# Altium schematic symbol library Resistors.SchLib: 76 symbols (part 3 of 3)
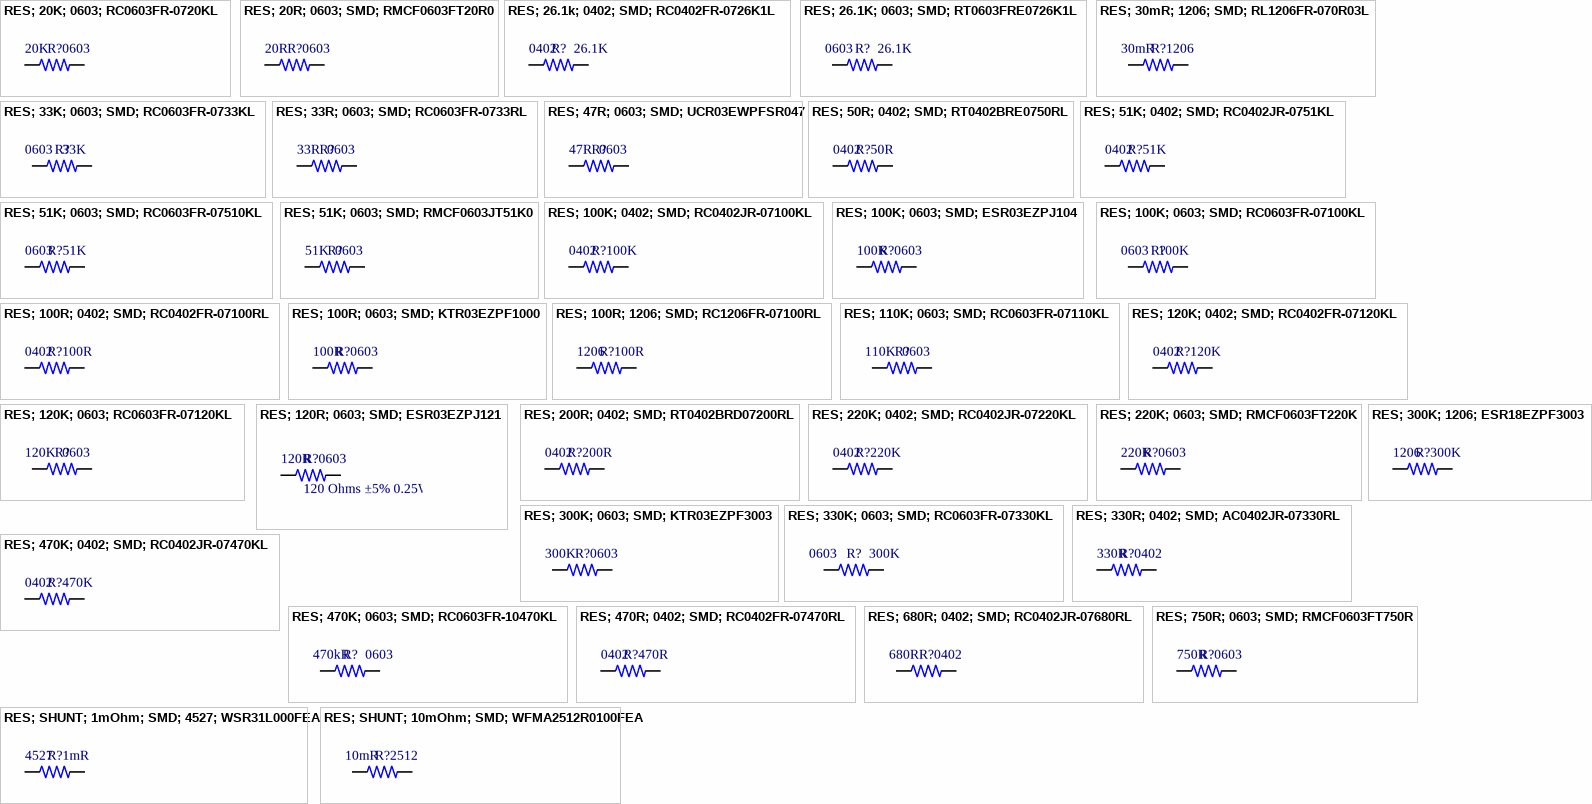
[diagram p3: symbols RES; 20K; 0603; RC0603FR-0720KL to RES; SHUNT; 10mOhm; SMD; WFMA2512R0100FEA]

## RES; 120R; 0603; SMD; ESR03EZPJ121
designator R?, comment 120 Ohms ±5% 0.25W, 1/4W Chip Resistor 0603 (1608 Metric) Automotive AEC-Q200, Pulse Withstanding Thick Film  value 120R  Package: 0603
Res Thick Film 0603 120 Ohm 5% 0.25W(1/4W) ±200ppm/C Epoxy Resin Pad SMD Automotive T/R; Manufacturer: Rohm; Manufacturer Part Number: ESR03EZPJ121; Power Rating: 250mW; Temperature Coefficient: 200ppm/°C; Voltage Rating: 150V; Designer: TVBac; Supplier: Mouser; Supplier Part Number: 755-ESR03EZPJ121; RoHS: Yes; Category: Chip SMD Resistors; Stock: 7569; Pricing: 1=0.14, 10=0.045, 50=0.045, 100=0.038, 500=0.027, 1000=0.024, 5000=0.016, 10000=0.015, 25000=0.014, 50000=0.013 (USD); Case Code (Metric): 1608; Case Code (Imperial): 0603; Min Operating Temperature: -55°C; Max Operating Temperature: 155°C; Tolerance: 5%; Package Quantity: 1; Packaging: Cut Tape; Number of Terminations: 2; Max Power Dissipation: 250mW; Features: Automotive AEC-Q200; Series: ESR; Voltage Rating (DC): 150V; Length: 0.063inch; Width: 0.031inch; Height: 0.022inch; RoHS Compliant: Yes; Lead Free: 5697LeadFree; ComponentLink1URL: https://datasheet.ciiva.com/2495/esr-2495285.pdf?src-supplier=Digikey; ComponentLink1Description: https://datasheet.ciiva.com/2495/esr-2495285.pdf?src-supplier=Digikey; ComponentLink2URL: https://datasheet.ciiva.com/2495/esr-2495286.pdf?src-supplier=Digikey; ComponentLink2Description: https://datasheet.ciiva.com/2495/esr-2495286.pdf?src-supplier=Digikey; ComponentLink3URL: https://datasheet.ciiva.com/2495/esr-2495284.pdf?src-supplier=Digikey; ComponentLink3Description: https://datasheet.ciiva.com/2495/esr-2495284.pdf?src-supplier=Digikey; Case/Package: 0603
footprint SMD-RES-0603-RS
pins: 1, 2

## RES; 200R; 0402; SMD; RT0402BRD07200RL
designator R?, comment value 200R  Package: 0402  (hidden comment: 200 Ohms ±0.1% 0.063W, 1/16W Chip Resistor 0402 (1005 Metric) Thin Film)
Res Thin Film 0402 200 Ohm 0.1% 1/16W ±25ppm/°C Molded SMD SMD Paper T/R; Manufacturer: Yageo; Manufacturer Part Number: RT0402BRD07200RL; Power Rating: 62.5mW; Voltage Rating: 50V; Max Power Dissipation: 63mW; Supplier: Digikey; Supplier Part Number: YAG1387CT-ND; RoHS: Yes; Category: Chip SMD Resistors; Stock: 9118; Pricing: 1=0.17, 10=0.117, 50=0.1, 100=0.0887, 500=0.06732, 1000=0.05814, 5000=0.04386 (USD); Case/Package: 0402; Case Code (Metric): 1005; Case Code (Imperial): 0402; Min Operating Temperature: -55°C; Max Operating Temperature: 155°C; Package Quantity: 10000; Packaging: Tape and Reel; Tolerance: 0.1%; Number of Terminations: 2; Termination: SMD/SMT; Temperature Coefficient: 25ppm/°C; Voltage Rating (DC): 50V; Features: Moisture Resistant; Series: RT; Length: 0.039inch; Width: 0.02inch; Height: 0.014inch; Lead Free: Lead Free; RoHS Compliant: Yes; ComponentLink1URL: https://datasheet.ciiva.com/12705/pyu-rt-1-to-0-05-rohs-l-4-12705967.pdf?src-supplier=Mouser; ComponentLink1Description: https://datasheet.ciiva.com/12705/pyu-rt-1-to-0-05-rohs-l-4-12705967.pdf?src-supplier=Mouser; ComponentLink2URL: https://datasheet.ciiva.com/2582/pyu-rt-1-to-0-05-rohs-l-4-2582220.pdf?src-supplier=Digikey; ComponentLink2Description: https://datasheet.ciiva.com/2582/pyu-rt-1-to-0-05-rohs-l-4-2582220.pdf?src-supplier=Digikey; ComponentLink3URL: https://datasheet.ciiva.com/46635/pyu-rt-1-to-0-05-rohs-l-5-46635174.pdf?src-supplier=Digikey; ComponentLink3Description: https://datasheet.ciiva.com/46635/pyu-rt-1-to-0-05-rohs-l-5-46635174.pdf?src-supplier=Digikey
footprint SMD-RES-0402-YAGEO
pins: 1, 2

## RES; 220K; 0402; SMD; RC0402JR-07220KL
designator R?, comment value 220K  Package: 0402  (hidden comment: 220 kOhms ±5% 0.063W, 1/16W Chip Resistor 0402 (1005 Metric) Moisture Resistant Thick Film)
SMD Chip Resistor, 220 kOhm, ï¿½ 5%, 63 mW, 0402 [1005 Metric], Thick Film, General Purpose; Manufacturer: Yageo; Manufacturer Part Number: RC0402JR-07220KL; Power Rating: 62.5mW; Voltage Rating: 50V; Temperature Coefficient: 100ppm/°C; Max Power Dissipation: 63mW; Supplier: Future Electronics; Supplier Part Number: 6521488; RoHS: Yes; Category: Chip SMD Resistors; Stock: 140000; Pricing: 10000=0.0009, 40000=0.0009, 50000=0.0006, 100000=0.0009, 250000=0.0008, 400000=0.0008, 500000=0.0005, 1500000=0.0005 (USD); Case/Package: 0402; Case Code (Imperial): 0402; Case Code (Metric): 1005; Min Operating Temperature: -55°C; Max Operating Temperature: 155°C; Tolerance: 5%; Packaging: Tape and Reel; Package Quantity: 10000; Termination: SMD/SMT; Resistor Type: Thick Film; Features: Moisture Resistant; Series: RC; Number of Terminations: 2; Construction: Rectangular; Resistance Tolerance: 5%; Length: 1mm; Width: 0.5mm; Height: 0.35mm; Depth: 0.5mm; Reach SVHC Compliant: No; Military Standard: Not; RoHS Compliant: Yes; Lead Free: 5697LeadFree; ComponentLink1URL: https://datasheet.ciiva.com/7983/1018594-7983565.pdf?src-supplier=Element14; ComponentLink1Description: https://datasheet.ciiva.com/7983/1018594-7983565.pdf?src-supplier=Element14; ComponentLink2URL: https://datasheet.ciiva.com/12558/pyu-rc0402-51-rohs-l-6-r-8721-12558319.pdf?src-supplier=Mouser; ComponentLink2Description: https://datasheet.ciiva.com/12558/pyu-rc0402-51-rohs-l-6-r-8721-12558319.pdf?src-supplier=Mouser; ComponentLink3URL: https://datasheet.ciiva.com/7850/1018594-7850175.pdf?src-supplier=Element14; ComponentLink3Description: https://datasheet.ciiva.com/7850/1018594-7850175.pdf?src-supplier=Element14; ComponentLink4URL: https://datasheet.ciiva.com/7850/1018594-7850174.pdf?src-supplier=Element14; ComponentLink4Description: https://datasheet.ciiva.com/7850/1018594-7850174.pdf?src-supplier=Element14; ComponentLink5URL: https://datasheet.ciiva.com/17067/pyu-rc0402-51-rohs-l-6-r-17067375.pdf?src-supplier=Future+Electronics; ComponentLink5Description: https://datasheet.ciiva.com/17067/pyu-rc0402-51-rohs-l-6-r-17067375.pdf?src-supplier=Future+Electronics
footprint SMD-RES-0402-YAGEO
pins: 1, 2

## RES; 220K; 0603; SMD; RMCF0603FT220K
designator R?, comment value 220K  Package: 0603  (hidden comment: 220 kOhms ±1% 0.1W, 1/10W Chip Resistor 0603 (1608 Metric) Automotive AEC-Q200 Thick Film)
Res Thick Film 0603 220K Ohm 1% 0.1W(1/10W) ±100ppm/C Pad SMD Automotive T/R; Manufacturer: Stackpole Electronics; Manufacturer Part Number: RMCF0603FT220K; Voltage Rating: 75V; Designer: TVBac; Supplier: Digikey; Supplier Part Number: RMCF0603FT220KCT-ND; RoHS: Yes; Category: Chip SMD Resistors; Stock: 1707380; Pricing: 1=0.1, 10=0.011, 50=0.0064, 100=0.0053, 500=0.0035, 1000=0.00299 (USD); Lead Free: 5697LeadFree; ComponentLink1URL: https://datasheet.ciiva.com/26835/getdatasheetpartid-479010-26835622.pdf?src-supplier=Verical; ComponentLink1Description: https://datasheet.ciiva.com/26835/getdatasheetpartid-479010-26835622.pdf?src-supplier=Verical; ComponentLink2Description: Link Digikey; ComponentLink2URL: https://www.digikey.com/en/products/detail/stackpole-electronics-inc/RMCF0603FT220K/1760805
footprint SMD-RES-0603-SEI
pins: 1, 2

## RES; 300K; 0603; SMD; KTR03EZPF3003
designator R?, comment value 300K  Package: 0603  (hidden comment: 300 kOhms ±1% 0.1W, 1/10W Chip Resistor 0603 (1608 Metric) Automotive AEC-Q200, High Voltage Thick Film)
Res High Voltage Thick Film 0603 300k Ohm 1% 1/10W ±100ppm/°C Molded Paper T/R; Manufacturer: Rohm; Manufacturer Part Number: KTR03EZPF3003; Max Power Dissipation: 100mW; Voltage Rating: 350V; Designer: TVBac; Supplier: Mouser; Supplier Part Number: 755-KTR03EZPF3003; RoHS: Yes; Category: Chip SMD Resistors; Stock: 9502; Pricing: 1=0.17, 10=0.055, 50=0.055, 100=0.032, 1000=0.026, 10000=0.019 (USD); Case/Package: 0603; Case Code (Metric): 1608; Case Code (Imperial): 0603; Min Operating Temperature: -55°C; Max Operating Temperature: 155°C; Package Quantity: 5000; Packaging: Cut Tape; Tolerance: 1%; Number of Terminations: 2; Temperature Coefficient: 100ppm/°C; Features: Automotive AEC-Q200; Series: KTR; Voltage Rating (DC): 350V; Length: 0.063inch; Width: 0.031inch; Height: 0.022inch; RoHS Compliant: Yes; ComponentLink1URL: https://datasheet.ciiva.com/14926/ktr-14926439.pdf?src-supplier=Digikey; ComponentLink1Description: https://datasheet.ciiva.com/14926/ktr-14926439.pdf?src-supplier=Digikey; ComponentLink2URL: https://datasheet.ciiva.com/14925/ktr-14925709.pdf?src-supplier=Digikey; ComponentLink2Description: https://datasheet.ciiva.com/14925/ktr-14925709.pdf?src-supplier=Digikey; ComponentLink3Description: Link Digikey; ComponentLink3URL: https://www.digikey.com/en/products/detail/rohm-semiconductor/KTR03EZPF3003/4051625
footprint SMD-RES-0603-RS
pins: 1, 2

## RES; 300K; 1206; ESR18EZPF3003
designator R?, comment value 300K  Package: 1206  (hidden comment: 300 kOhms ±1% 0.5W, 1/2W Chip Resistor 1206 (3216 Metric) Automotive AEC-Q200, Pulse Withstanding Thick Film)
Res Thick Film 1206 300K Ohm 1% 0.5W(1/2W) ±100ppm/C Epoxy Resin Pad SMD Automotive T/R; Manufacturer: Rohm; Manufacturer Part Number: ESR18EZPF3003; Max Power Dissipation: 500mW; Temperature Coefficient: 100ppm/°C; Voltage Rating: 200V; Designer: TVBac; Supplier: Mouser; Supplier Part Number: 755-ESR18EZPF3003; RoHS: Yes; Category: Chip SMD Resistors; Stock: 34367; Pricing: 1=0.12, 10=0.042, 50=0.042, 100=0.026, 1000=0.023, 10000=0.016 (USD); Case/Package: 1206; Case Code (Metric): 3216; Case Code (Imperial): 1206; Min Operating Temperature: -55°C; Max Operating Temperature: 155°C; Tolerance: 1%; Packaging: Cut Tape; Number of Terminations: 2; Features: Automotive AEC-Q200; Series: ESR; Ratings: AEC-Q200; RoHS Compliant: Yes; ComponentLink1URL: https://datasheet.ciiva.com/2527/esr-2527195.pdf?src-supplier=Digikey; ComponentLink1Description: https://datasheet.ciiva.com/2527/esr-2527195.pdf?src-supplier=Digikey; ComponentLink2URL: https://datasheet.ciiva.com/2527/esr-2527196.pdf?src-supplier=Digikey; ComponentLink2Description: https://datasheet.ciiva.com/2527/esr-2527196.pdf?src-supplier=Digikey; ComponentLink3URL: https://datasheet.ciiva.com/2527/esr-2527197.pdf?src-supplier=Digikey; ComponentLink3Description: https://datasheet.ciiva.com/2527/esr-2527197.pdf?src-supplier=Digikey; ComponentLink4Description: Link Digikey; ComponentLink4URL: https://www.digikey.com/en/products/detail/rohm-semiconductor/ESR18EZPF3003/1983605
footprint SMD-RES-1206-RS
pins: 1, 2

## RES; 330K; 0603; SMD; RC0603FR-07330KL
designator R?, comment value 300K  Package: 0603  (hidden comment: 330 kOhms ±1% 0.1W, 1/10W Chip Resistor 0603 (1608 Metric) Moisture Resistant Thick Film)
SMD Chip Resistor, 330 kOhm, ï¿½ 1%, 100 mW, 0603 [1608 Metric], Thick Film, General Purpose; Manufacturer: Yageo; Manufacturer Part Number: RC0603FR-07330KL; Power Rating: 100mW; Voltage Rating: 75V; Voltage Rating (DC): 50V; Temperature Coefficient: 100ppm/°C; Designer: TVBac; Supplier: Future Electronics; Supplier Part Number: 9008384; RoHS: Yes; Category: Chip SMD Resistors; Stock: 905000; Pricing: 5000=0.0012, 25000=0.0012, 125000=0.0011, 250000=0.0011, 750000=0.001 (USD); Case/Package: 0603; Pins: 2; Case Code (Imperial): 0603; Case Code (Metric): 1608; Weight: 7.1E-05oz; Min Operating Temperature: -55°C; Max Operating Temperature: 155°C; Tolerance: 1%; Packaging: Tape and Reel; Termination: SMD/SMT; Resistor Type: Thick Film; Number of Terminations: 2; Max Power Dissipation: 100mW; Features: Moisture Resistant; Series: RC; Resistance Tolerance: 1%; Construction: Rectangular; Voltage Rating (AC): 50V; Working Voltage: 75V; Length: 1.6mm; Width: 0.8mm; Height: 0.45mm; Depth: 0.8mm; Reach SVHC Compliant: No; Military Standard: Not; Lead Free: Lead Free; RoHS Compliant: Yes; ComponentLink1URL: https://datasheet.ciiva.com/2455/pyu-r-int-thick-7-2455365.pdf?src-supplier=Digikey; ComponentLink1Description: https://datasheet.ciiva.com/2455/pyu-r-int-thick-7-2455365.pdf?src-supplier=Digikey; ComponentLink2URL: https://datasheet.ciiva.com/2455/pyu-r-int-thick-7-2455366.pdf?src-supplier=Digikey; ComponentLink2Description: https://datasheet.ciiva.com/2455/pyu-r-int-thick-7-2455366.pdf?src-supplier=Digikey; ComponentLink3URL: https://datasheet.ciiva.com/2455/pyu-r-int-thick-7-2455367.pdf?src-supplier=Digikey; ComponentLink3Description: https://datasheet.ciiva.com/2455/pyu-r-int-thick-7-2455367.pdf?src-supplier=Digikey; ComponentLink4URL: https://datasheet.ciiva.com/7746/443971-7746327.pdf?src-supplier=Element14; ComponentLink4Description: https://datasheet.ciiva.com/7746/443971-7746327.pdf?src-supplier=Element14; ComponentLink5URL: https://datasheet.ciiva.com/7746/443971-7746328.pdf?src-supplier=Element14; ComponentLink5Description: https://datasheet.ciiva.com/7746/443971-7746328.pdf?src-supplier=Element14
footprint SMD-RES-0603-YAGEO
pins: 1, 2

## RES; 330R; 0402; SMD; AC0402JR-07330RL
designator R?, comment value 330R  Package: 0402  (hidden comment: 330 Ohms ±5% 0.063W, 1/16W Chip Resistor 0402 (1005 Metric) Automotive AEC-Q200, Moisture Resistant Thick Film)
SMD Chip Resistor, 330 Ohm, ± 5%, 63 mW, 0402 [1005 Metric], Thick Film, General Purpose; Manufacturer: Yageo; Manufacturer Part Number: AC0402JR-07330RL; Power Rating: 62.5mW; Voltage Rating: 50V; Max Power Dissipation: 63mW; Temperature Coefficient: 100ppm/°C; Supplier: Digikey; Supplier Part Number: YAG3542CT-ND; RoHS: Yes; Category: Chip SMD Resistors; Stock: 36911; Pricing: 1=0.1, 10=0.008, 50=0.0072, 100=0.0061, 500=0.0056, 1000=0.0051 (USD); Case/Package: 0402; Case Code (Imperial): 0402; Case Code (Metric): 1005; Min Operating Temperature: -55°C; Max Operating Temperature: 155°C; Packaging: Tape and Reel; Tolerance: 5%; Number of Terminations: 2; Termination: SMD/SMT; Features: Moisture Resistant,Automotive AEC-Q200; Series: AC; Length: 0.039inch; Width: 0.5mm; Height: 0.015inch; RoHS Compliant: Yes; ComponentLink1URL: http://www.mouser.com/ds/2/447/yageodocoutput-1111992.pdf?src-supplier=Mouser; ComponentLink1Description: http://www.mouser.com/ds/2/447/yageodocoutput-1111992.pdf?src-supplier=Mouser; ComponentLink2URL: http://www.yageo.com/NewPortal/yageodocoutput?fileName=/pdf/R-Chip/PYu-AC_51_RoHS_L_6.pdf&src-supplier=Digikey; ComponentLink2Description: http://www.yageo.com/NewPortal/yageodocoutput?fileName=/pdf/R-Chip/PYu-AC_51_RoHS_L_6.pdf&src-supplier=Digikey
footprint SMD-RES-0402-YAGEO
pins: 1, 2

## RES; 470K; 0402; SMD; RC0402JR-07470KL
designator R?, comment value 470K  Package: 0402  (hidden comment: 470 kOhms ±5% 0.063W, 1/16W Chip Resistor 0402 (1005 Metric) Moisture Resistant Thick Film)
SMD Chip Resistor, 470 kOhm, ï¿½ 5%, 63 mW, 0402 [1005 Metric], Thick Film, General Purpose; Manufacturer: Yageo; Manufacturer Part Number: RC0402JR-07470KL; Power Rating: 62.5mW; Voltage Rating: 50V; Temperature Coefficient: 100ppm/°C; Max Power Dissipation: 63mW; Supplier: Future Electronics; Supplier Part Number: 1037332; RoHS: Yes; Category: Chip SMD Resistors; Stock: 1040000; Pricing: 10000=0.0009, 40000=0.0009, 50000=0.0006, 100000=0.0009, 250000=0.0008, 400000=0.0008, 500000=0.0005, 1500000=0.0005 (USD); Case/Package: 0402; Case Code (Metric): 1005; Case Code (Imperial): 0402; Min Operating Temperature: -55°C; Max Operating Temperature: 155°C; Package Quantity: 10000; Tolerance: 5%; Packaging: Tape and Reel; Resistor Type: Thick Film; Number of Terminations: 2; Termination: SMD/SMT; Working Voltage: 50V; Features: Moisture Resistant; Series: RC; Technology: THICK FILM; Construction: Rectangular; Resistance Tolerance: 5%; Voltage Rating (AC): 50V; Length: 0.039inch; Width: 0.02inch; Height: 0.016inch; Depth: 0.5mm; Reach SVHC Compliant: No; Military Standard: Not; RoHS Compliant: Yes; Lead Free: 5697LeadFree; ComponentLink1URL: https://datasheet.ciiva.com/2452/pyu-r-int-thick-7-2452630.pdf?src-supplier=Digikey; ComponentLink1Description: https://datasheet.ciiva.com/2452/pyu-r-int-thick-7-2452630.pdf?src-supplier=Digikey; ComponentLink2URL: https://datasheet.ciiva.com/2452/pyu-r-int-thick-7-2452631.pdf?src-supplier=Digikey; ComponentLink2Description: https://datasheet.ciiva.com/2452/pyu-r-int-thick-7-2452631.pdf?src-supplier=Digikey; ComponentLink3URL: https://datasheet.ciiva.com/2452/pyu-r-int-thick-7-2452629.pdf?src-supplier=Digikey; ComponentLink3Description: https://datasheet.ciiva.com/2452/pyu-r-int-thick-7-2452629.pdf?src-supplier=Digikey; ComponentLink4URL: https://datasheet.ciiva.com/12667/pyu-rc0402-51-rohs-l-6-r-12667098.pdf?src-supplier=Mouser; ComponentLink4Description: https://datasheet.ciiva.com/12667/pyu-rc0402-51-rohs-l-6-r-12667098.pdf?src-supplier=Mouser; ComponentLink5URL: https://datasheet.ciiva.com/7850/1018594-7850214.pdf?src-supplier=Element14; ComponentLink5Description: https://datasheet.ciiva.com/7850/1018594-7850214.pdf?src-supplier=Element14
footprint SMD-RES-0402-YAGEO
pins: 1, 2

## RES; 470K; 0603; SMD; RC0603FR-10470KL
designator R?, comment value 470kR  Package: 0603  (hidden comment: 470 kOhms ±1% 0.1W, 1/10W Chip Resistor 0603 (1608 Metric) Thick Film)
SMD Chip Resistor, 470 kOhm, ï¿½ 1%, 100 mW, 0603 [1608 Metric], Thick Film, General Purpose; Manufacturer: Yageo; Manufacturer Part Number: RC0603FR-10470KL; Power Rating: 100mW; Voltage Rating: 50V; Temperature Coefficient: 100ppm/°C; Designer: TVBac; Supplier: Digikey; Supplier Part Number: 13-RC0603FR-10470KLCT-ND; RoHS: Yes; Category: Chip SMD Resistors; Stock: 81690; Pricing: 1=0.1, 10=0.009, 100=0.0071, 1000=0.0051, 2500=0.00408 (USD); Case/Package: 0603; Case Code (Imperial): 0603; Case Code (Metric): 1608; Contact Plating: Tin,Lead; Min Operating Temperature: -55°C; Max Operating Temperature: 155°C; Packaging: Tape and Reel; Tolerance: 1%; Termination: SMD/SMT; Series: RC; Length: 1.6mm; Width: 0.8mm; Height: 0.45mm; RoHS Compliant: Yes; ComponentLink1URL: https://datasheet.ciiva.com/12561/rc0603-272842-12561429.pdf?src-supplier=Mouser; ComponentLink1Description: https://datasheet.ciiva.com/12561/rc0603-272842-12561429.pdf?src-supplier=Mouser
footprint SMD-RES-0603-YAGEO
pins: 1, 2

## RES; 470R; 0402; SMD; RC0402FR-07470RL
designator R?, comment value 470R  Package: 0402  (hidden comment: 470 Ohms ±1% 0.063W, 1/16W Chip Resistor 0402 (1005 Metric) Moisture Resistant Thick Film)
Res Thick Film 0402 470 Ohm 1% 0.063W(1/16W) ±100ppm/C Pad SMD T/R; Manufacturer: Yageo; Manufacturer Part Number: RC0402FR-07470RL; Voltage Rating: 50V; Power Rating: 62.5mW; Max Power Dissipation: 63mW; Temperature Coefficient: 100ppm/°C; Supplier: Digikey; Supplier Part Number: 311-470LRCT-ND; RoHS: Yes; Category: Chip SMD Resistors; Stock: 1914207; Pricing: 1=0.1, 10=0.008, 100=0.0041, 1000=0.00306, 10000=0.00204, 20000=0.0019, 30000=0.00172, 50000=0.00161, 70000=0.00153 (USD); Case/Package: 0402; Case Code (Metric): 1005; Case Code (Imperial): 0402; Min Operating Temperature: -55°C; Max Operating Temperature: 155°C; Packaging: Tape and Reel; Tolerance: 1%; Resistor Type: Thick Film; Number of Terminations: 2; Termination: SMD/SMT; Features: Moisture Resistant; Series: RC; Resistance Tolerance: 1%; Package Quantity: 1; Construction: Rectangular; Voltage Rating (AC): 50V; Working Voltage: 50V; Length: 1mm; Width: 0.02inch; Height: 0.016inch; Depth: 0.5mm; Reach SVHC Compliant: No; Lead Free: Lead Free; RoHS Compliant: Yes; Military Standard: Not
footprint SMD-RES-0402-YAGEO
pins: 1, 2

## RES; 680R; 0402; SMD; RC0402JR-07680RL
designator R?, comment value 680R  Package: 0402  (hidden comment: 680 Ohms ±5% 0.063W, 1/16W Chip Resistor 0402 (1005 Metric) Moisture Resistant Thick Film)
SMD Chip Resistor, 680 Ohm, ï¿½ 5%, 63 mW, 0402 [1005 Metric], Thick Film, General Purpose; Manufacturer: Yageo; Manufacturer Part Number: RC0402JR-07680RL; Voltage Rating (AC): 50V; Supplier: Future Electronics; Supplier Part Number: 1680057; RoHS: Yes; Category: Chip SMD Resistors; Stock: 650000; Pricing: 10000=0.0009, 40000=0.0009, 50000=0.0006, 100000=0.0009, 250000=0.0008, 400000=0.0008, 500000=0.0005, 1500000=0.0005 (USD); Lead Free: 5697LeadFree; ComponentLink1URL: https://datasheet.ciiva.com/2452/pyu-r-int-thick-7-2452686.pdf?src-supplier=Digikey; ComponentLink1Description: https://datasheet.ciiva.com/2452/pyu-r-int-thick-7-2452686.pdf?src-supplier=Digikey; ComponentLink2URL: https://datasheet.ciiva.com/2452/pyu-r-int-thick-7-2452687.pdf?src-supplier=Digikey; ComponentLink2Description: https://datasheet.ciiva.com/2452/pyu-r-int-thick-7-2452687.pdf?src-supplier=Digikey; ComponentLink3URL: https://datasheet.ciiva.com/2452/pyu-r-int-thick-7-2452688.pdf?src-supplier=Digikey; ComponentLink3Description: https://datasheet.ciiva.com/2452/pyu-r-int-thick-7-2452688.pdf?src-supplier=Digikey; ComponentLink4URL: https://datasheet.ciiva.com/16740/pyu-rc0402-51-rohs-l-6-r-16740838.pdf?src-supplier=Future+Electronics; ComponentLink4Description: https://datasheet.ciiva.com/16740/pyu-rc0402-51-rohs-l-6-r-16740838.pdf?src-supplier=Future+Electronics; ComponentLink5URL: https://datasheet.ciiva.com/7850/1018594-7850236.pdf?src-supplier=Element14; ComponentLink5Description: https://datasheet.ciiva.com/7850/1018594-7850236.pdf?src-supplier=Element14; ComponentLink6URL: https://datasheet.ciiva.com/7850/1018594-7850237.pdf?src-supplier=Element14; ComponentLink6Description: https://datasheet.ciiva.com/7850/1018594-7850237.pdf?src-supplier=Element14; ComponentLink7URL: https://datasheet.ciiva.com/12656/pyu-rc0402-51-rohs-l-6-r-12656938.pdf?src-supplier=Mouser; ComponentLink7Description: https://datasheet.ciiva.com/12656/pyu-rc0402-51-rohs-l-6-r-12656938.pdf?src-supplier=Mouser; ComponentLink8URL: https://datasheet.ciiva.com/7983/1018594-7983605.pdf?src-supplier=Element14; ComponentLink8Description: https://datasheet.ciiva.com/7983/1018594-7983605.pdf?src-supplier=Element14
footprint SMD-RES-0402-YAGEO
pins: 1, 2

## RES; 750R; 0603; SMD; RMCF0603FT750R
designator R?, comment value 750R  Package: 0603  (hidden comment: 750 Ohms ±1% 0.1W, 1/10W Chip Resistor 0603 (1608 Metric) Automotive AEC-Q200 Thick Film)
Res Thick Film 0603 750 Ohm 1% 0.1W(1/10W) ±100ppm/C Pad SMD Automotive T/R; Manufacturer: Stackpole Electronics; Manufacturer Part Number: RMCF0603FT750R; Voltage Rating: 75V; Designer: TVBac; Supplier: Digikey; Supplier Part Number: RMCF0603FT750RCT-ND; RoHS: Yes; Category: Chip SMD Resistors; Stock: 119477; Pricing: 1=0.1, 10=0.015, 50=0.009, 100=0.0075, 500=0.00498, 1000=0.00425 (USD); Lead Free: 5697LeadFree; ComponentLink1URL: http://components.arrow.com/part/dataview/46942753S8307359N1174?src-supplier=Arrow+Electronics; ComponentLink1Description: http://components.arrow.com/part/dataview/46942753S8307359N1174?src-supplier=Arrow+Electronics; ComponentLink2URL: https://www.seielect.com/catalog/SEI-RMCF_RMCP.pdf?src-supplier=Avnet; ComponentLink2Description: https://www.seielect.com/catalog/SEI-RMCF_RMCP.pdf?src-supplier=Avnet; ComponentLink3URL: https://www.seielect.com/catalog/SEI-Packaging.pdf?src-supplier=Digikey; ComponentLink3Description: https://www.seielect.com/catalog/SEI-Packaging.pdf?src-supplier=Digikey; ComponentLink4URL: http://www.seielect.com/Catalog/SEI-RMC.pdf?src-supplier=Future+Electronics; ComponentLink4Description: http://www.seielect.com/Catalog/SEI-RMC.pdf?src-supplier=Future+Electronics; ComponentLink5URL: https://datasheet.octopart.com/RMCF0603FT750R-Stackpole-Electronics-datasheet-11547379.pdf?src-supplier=Future+Electronics; ComponentLink5Description: https://datasheet.octopart.com/RMCF0603FT750R-Stackpole-Electronics-datasheet-11547379.pdf?src-supplier=Future+Electronics; ComponentLink6Description: Link Digikey; ComponentLink6URL: https://www.digikey.com/en/products/detail/stackpole-electronics-inc/RMCF0603FT750R/1761094; ComponentLink7Description: New link; ComponentLink7URL: https://www.digikey.com/en/products/detail/stackpole-electronics-inc/RMCF0603FT750R/1761094
footprint SMD-RES-0603-RS
pins: 1, 2

## RES; SHUNT; 1mOhm; SMD; 4527; WSR31L000FEA
designator R?, comment value 1mR  Package: 4527  (hidden comment: 1 mOhms ±1% 3W Chip Resistor 4527 J-Lead Anti-Sulfur, Automotive AEC-Q200, Current Sense, Moisture Resistant, Pulse Withstanding Metal Element)
Res Metal Strip 4527 0.001 Ohm 1% 3W ±750ppm/°C Molded SMD SMD Embossed Plastic T/R; Manufacturer: Vishay Dale; Manufacturer Part Number: WSR31L000FEA; Voltage Rating: 50mV; Designer: TVBac; Supplier: Avnet; Supplier Part Number: WSR31L000FEA; RoHS: Yes; Category: Chip SMD Resistors; Stock: 4500; Pricing: 1500=1.0005, 3000=0.7429, 6000=0.72542, 9000=0.70794, 12000=0.69046, 15000=0.67298, 150000=0.66424 (USD); Pins: 2; Case Code (Imperial): 4527; Contact Plating: Tin,Silver; Min Operating Temperature: -65°C; Max Operating Temperature: 275°C; Tolerance: 1%; Power Rating: 3W; Packaging: Tape and Reel; Package Quantity: 1; Resistor Type: Metal Strip; Number of Terminations: 2; Termination: SMD/SMT; Max Power Dissipation: 3W; Temperature Coefficient: 750ppm/°C; Features: Moisture Resistant,Automotive AEC-Q200; Series: WSR; Resistance Tolerance: 1%; Technology: METAL STRIP; Construction: Rectangular; Length: 11.56mm; Width: 6.98mm; Height: 2.41mm; Depth: 6.98mm; Radiation Hardening: No; Military Standard: Not; Lead Free: Lead Free; RoHS Compliant: Yes; Reach SVHC Compliant: Unknown; ComponentLink1URL: https://datasheet.ciiva.com/15159/getdatasheetpartid-44618-15159493.pdf?src-supplier=Verical; ComponentLink1Description: https://datasheet.ciiva.com/15159/getdatasheetpartid-44618-15159493.pdf?src-supplier=Verical; ComponentLink2URL: https://datasheet.ciiva.com/7734/1860686-7734009.pdf?src-supplier=Element14; ComponentLink2Description: https://datasheet.ciiva.com/7734/1860686-7734009.pdf?src-supplier=Element14; ComponentLink3URL: https://datasheet.ciiva.com/16290/wsr-16290314.pdf?src-supplier=Future+Electronics; ComponentLink3Description: https://datasheet.ciiva.com/16290/wsr-16290314.pdf?src-supplier=Future+Electronics; ComponentLink4URL: https://datasheet.ciiva.com/2484/wsr-2484763.pdf?src-supplier=Digikey; ComponentLink4Description: https://datasheet.ciiva.com/2484/wsr-2484763.pdf?src-supplier=Digikey; ComponentLink5URL: https://datasheet.ciiva.com/5471/wsr-239755-5471563.pdf?src-supplier=Mouser; ComponentLink5Description: https://datasheet.ciiva.com/5471/wsr-239755-5471563.pdf?src-supplier=Mouser; ComponentLink6URL: https://datasheet.ciiva.com/2484/wsr-2484764.pdf?src-supplier=Digikey; ComponentLink6Description: https://datasheet.ciiva.com/2484/wsr-2484764.pdf?src-supplier=Digikey; ComponentLink7URL: https://datasheet.ciiva.com/2484/wsr-2484765.pdf?src-supplier=Digikey; ComponentLink7Description: https://datasheet.ciiva.com/2484/wsr-2484765.pdf?src-supplier=Digikey; ComponentLink8Description: Link Digikey; ComponentLink8URL: https://www.digikey.com/en/products/detail/vishay-dale/WSR31L000FEA/712621; Case/Package: 4527
footprint SMD-RES-4527-SHUNT-VD
pins: 1, 2

## RES; SHUNT; 10mOhm; SMD; WFMA2512R0100FEA
designator R?, comment value 10mR  Package: 2512  (hidden comment: 10 mOhms ±1% 3W Chip Resistor 2512 (6432 Metric) Automotive AEC-Q200, Current Sense, Moisture Resistant Metal Film)
Res Current Sense Metal Plate 2512 0.01 Ohm 1% 3W ±110ppm/°C Molded T/R; Manufacturer: Vishay; Manufacturer Part Number: WFMA2512R0100FEA; Designer: TVBac; Supplier: Digikey; Supplier Part Number: 541-10292-6-ND; RoHS: Yes; Category: Chip SMD Resistors; Pricing: 1=2.85, 10=1.682, 25=1.3844, 50=1.2026, 100=1.0506, 250=0.88712, 500=0.78654, 1000=0.70625 (USD); Power Rating: 3W; Temperature Coefficient: 110ppm/°C; ComponentLink1URL: http://www.vishay.com/docs/30387/wfm.pdf?src-supplier=Digikey; ComponentLink1Description: http://www.vishay.com/docs/30387/wfm.pdf?src-supplier=Digikey; ComponentLink2URL: http://www.farnell.com/datasheets/2793367.pdf?src-supplier=Newark; ComponentLink2Description: http://www.farnell.com/datasheets/2793367.pdf?src-supplier=Newark; ComponentLink3Description: Link Digikey; ComponentLink3URL: https://www.digikey.com/en/products/detail/vishay-dale/WFMA2512R0100FEA/9992531; ComponentLink4Description: Link CXT; ComponentLink4URL: https://linhkien.cxt.vn/3121-wfma2512r0100fea-tro-001-ohms-1-3w.html
footprint SMD-RES-2512-VD
pins: 1, 2